# Altium schematic symbol library D Schottky.SchLib: 1 symbol
Pins are listed as number, name and electrical type; pins without a type are passive.

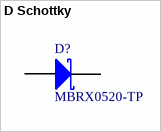
[diagram p0: symbol D Schottky]

## D Schottky
designator D?, comment MBRX0520-TP
Part Field1: Diode; Part Field 2: Schottky, 20V, 500mA; Part Field 3: SOD323; Part Field 4: Micro Commercial Components; Part Field 5: MBRX0520-TP or equiv.; Part Field 6: 222-1203
footprint SOD323
pins: 1 A, 2 K